# Altium footprint library eGPU Solusions Package.PcbLib: 47 footprints (part 1 of 3)
Each footprint in its own frame and in the unit in brackets; x right, y up, seen from the top. Pads: shape width x height; smd on the part's side, far side on the other; paste and mask are expansions set on the pad; w line width, h text height; cw(c..) or ccw(c..) is an arc to the next point about the centre after c.
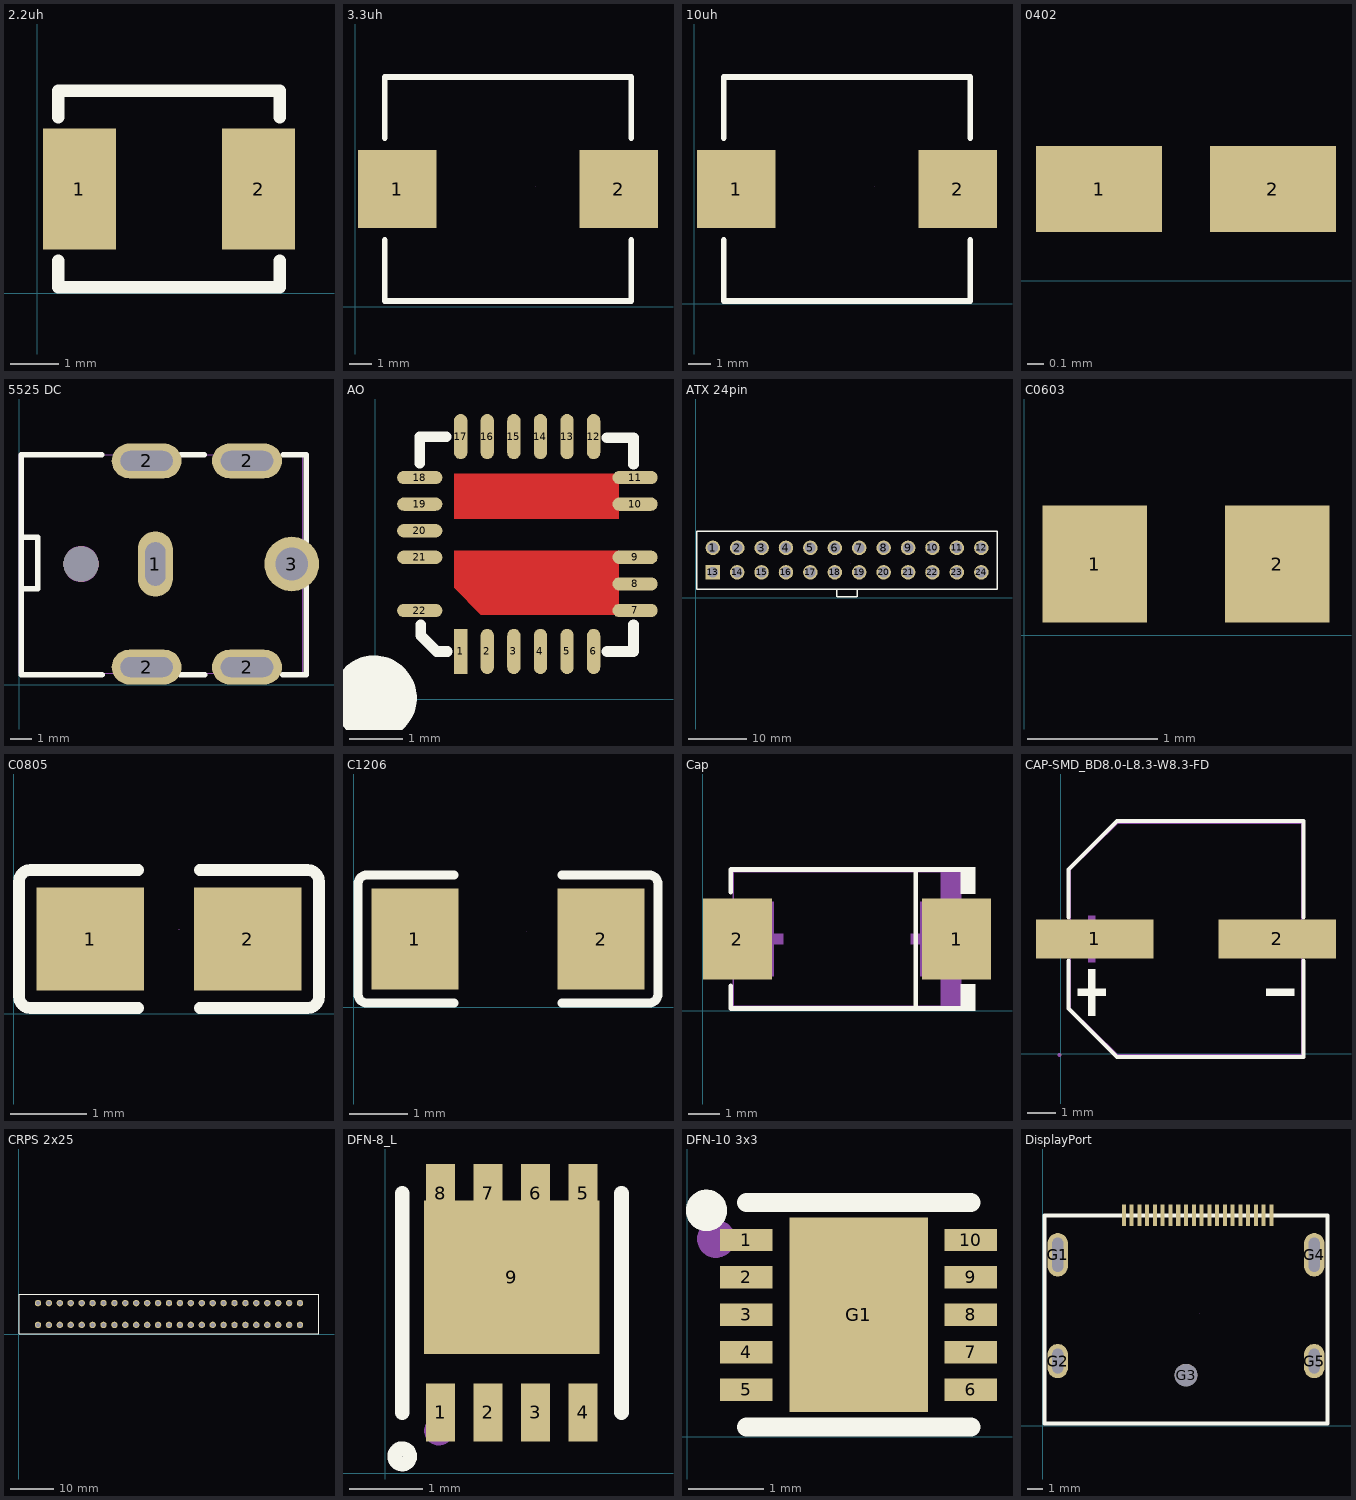
[diagram p0: the footprints below, top view; thin cyan lines are the x and y axes]

## 2.2uh [mm]
pads (2):
  rect 1.5x2.5 smd: 1(0.877,2.159) 2(4.577,2.159)
Top Overlay:
  lines w0.254: 0.441,0.678 0.441,0.127 2.854,0.127 5.013,0.127 5.013,0.678 ; 0.441,3.64 0.441,4.191 5.013,4.191 5.013,3.64
Mechanical 15:
  lines w0.003: 3.933,2.286 3.934,2.286

## 3.3uh [mm]
pads (2):
  rect 3.5x3.5 smd: 1(1.877,5.254) 2(11.777,5.254)
Top Overlay:
  lines w0.254: 1.327,2.973 1.327,0.254 12.327,0.254 12.327,2.973 ; 1.327,7.535 1.327,10.254 12.327,10.254 12.327,7.535
Mechanical 15:
  lines w0.003: 8.033,5.381 8.034,5.381

## 10uh [mm]
pads (2):
  rect 3.5x3.5 smd: 1(1.877,5.127) 2(11.777,5.127)
Top Overlay:
  lines w0.254: 1.327,2.846 1.327,0.127 12.327,0.127 12.327,2.846 ; 1.327,7.408 1.327,10.127 12.327,10.127 12.327,7.408
Mechanical 15:
  lines w0.003: 8.033,5.254 8.034,5.254

## 0402 [mm]
pads (2):
  rect 0.79x0.54 smd: 1(0.7,0.575) 2(1.79,0.575)
Top Paste:
  region: 1.065,0.8 1.065,0.35 0.995,0.3 0.515,0.3 0.465,0.35 0.465,0.8 0.515,0.85 0.995,0.85
  region: 2.025,0.8 2.025,0.35 1.975,0.3 1.495,0.3 1.425,0.35 1.425,0.8 1.495,0.85 1.975,0.85
Mechanical 15:
  lines w0.003: 1.562,0.702 1.563,0.702

## 5525 DC [mm]
pads (6):
  oval 1.6x3 hole 0.914 slot 2 at 90 deg paste+0 mask+0.05: 1(6.25,5.544)
  oval 3.2x1.6 hole 0.914 slot 2.4 at 0 deg copper offset 0,0 paste+0 mask+0.05: 2(5.85,0.819)
  oval 3.2x1.6 hole 0.914 slot 2.4 at 0 deg paste+0 mask+0.05: 2(5.85,10.269) 2(10.45,10.269) 2(10.45,0.819)
  round 2.5 hole 1.5 paste+0 mask+0.05: 3(12.5,5.544)
via 2.85,5.544 diameter 1.6 hole 1.6
Top Overlay:
  lines w0.254: 0.1,0.464 3.805,0.464 ; 0.1,0.544 0.1,10.544 3.787,10.544 ; 0.1,4.401 0.849,4.401 0.849,6.77 0.1,6.77 ; 7.395,0.464 8.505,0.464 ; 7.413,10.544 8.487,10.544 ; 12.095,0.464 13.168,0.464 13.168,4.519 ; 12.113,10.544 13.168,10.544 13.168,6.569
Mechanical 1:
  circle w0.005: c2.85,5.544 r0.8
Mechanical 15:
  region: 6.1,6.344 6.4,6.344 6.4,4.744 6.1,4.744
  region: 5.05,10.419 6.65,10.419 6.65,10.119 5.05,10.119
  region: 5.05,0.969 6.65,0.969 6.65,0.669 5.05,0.669
  region: 9.65,0.969 11.25,0.969 11.25,0.669 9.65,0.669
  region: 9.65,10.419 11.25,10.419 11.25,10.119 9.65,10.119
  region: 13.1,5.544 13.1,5.663 13.009,5.884 12.84,6.053 12.619,6.144 12.381,6.144 12.16,6.053 11.991,5.884 11.9,5.663 11.9,5.544 11.9,5.425 11.991,5.204 12.16,5.035 12.381,4.944 12.619,4.944 12.84,5.035 13.009,5.204 13.1,5.425
  region: 13.16,10.544 13.16,10.569 13.125,10.604 13.075,10.604 13.04,10.569 13.04,10.544 13.04,10.519 13.075,10.484 13.125,10.484 13.16,10.519
  lines w0.051: 0,0.544 0,10.544 13,10.544 13,0.544 0,0.544

## AO [mm]
pads (22):
  rect 0.25x0.85 smd: 1(1.604,0.902)
  oval 0.25x0.85 smd: 2(2.104,0.902) 3(2.604,0.902) 4(3.104,0.902) 5(3.604,0.902) 6(4.104,0.902) 12(4.104,4.942) 13(3.604,4.942) 14(3.104,4.942) 15(2.604,4.942) 16(2.104,4.942) 17(1.604,4.942)
  oval 0.85x0.25 smd: 7(4.884,1.673) 8(4.884,2.172) 9(4.884,2.672) 10(4.884,3.672) 11(4.884,4.172) 18(0.834,4.172) 19(0.834,3.672) 20(0.834,3.172) 21(0.834,2.672) 22(0.834,1.672)
Top Layer:
  region: 1.979,1.597 1.479,2.097 1.479,2.797 4.579,2.797 4.579,1.597
  region: 1.479,3.397 1.479,4.247 4.579,4.247 4.579,3.397
Top Overlay:
  circle w1: c-0.021,0.026 r0.3
  lines w0.2: 0.834,4.442 0.834,4.942 1.334,4.942 ; 0.854,1.402 0.854,1.202 1.154,0.902 1.354,0.902 ; 4.354,0.902 4.854,0.902 4.854,1.402 ; 4.354,4.922 4.854,4.922 4.854,4.422

## ATX 24pin [mm]
pads (24):
  round 2.5 hole 1.8: 1(2.986,8.578) 2(7.174,8.578) 3(11.385,8.578) 4(15.556,8.578) 5(19.755,8.578) 6(23.956,8.578) 7(28.155,8.578) 8(32.356,8.578) 9(36.554,8.578) 10(40.755,8.578) 11(44.954,8.578) 12(49.153,8.578) 14(7.154,4.376) 15(11.355,4.376) 16(15.556,4.376) 17(19.755,4.376) 18(23.956,4.376) 19(28.155,4.376) 20(32.356,4.376) 21(36.554,4.376) 22(40.755,4.376) 23(44.954,4.376) 24(49.153,4.376)
  rect 2.5x2.5 hole 1.8: 13(2.954,4.377)
Top Overlay:
  lines w0.254: 24.276,0.127 24.276,1.397 ; 24.354,0.177 27.754,0.177 ; 27.832,0.127 27.832,1.397 ; 0.254,1.477 0.254,11.477 51.854,11.477 51.854,1.477 0.254,1.477
Mechanical 15:
  lines w0.003: 26.625,5.929 26.626,5.929

## C0603 [mm]
pads (2):
  rect 0.8x0.9 smd: 1(0.542,0.546) 2(1.941,0.546)

## C0805 [mm]
pads (2):
  rect 1.41x1.35 smd: 1(1.002,0.98) 2(3.062,0.98)
Top Overlay:
  lines w0.152: 1.631,0.076 0.221,0.076 cw(c0.221,0.229) 0.068,0.229 0.068,1.731 cw(c0.221,1.731) 0.221,1.883 1.631,1.883 ; 2.433,0.076 3.843,0.076 ccw(c3.843,0.229) 3.996,0.229 3.996,1.731 ccw(c3.843,1.731) 3.843,1.883 2.433,1.883
Top Paste:
  region: 0.357,0.36 0.357,1.64 0.407,1.69 1.557,1.69 1.607,1.64 1.612,1.23 1.162,1.23 1.162,0.78 1.602,0.78 1.607,0.36 1.557,0.31 0.407,0.31
  region: 2.507,0.36 2.507,0.78 2.952,0.78 2.952,1.23 2.512,1.23 2.507,1.64 2.557,1.69 3.707,1.69 3.757,1.64 3.757,0.36 3.707,0.31 2.557,0.31
Mechanical 15:
  lines w0.003: 2.163,1.107 2.163,1.107

## C1206 [mm]
pads (2):
  rect 1.485x1.728 smd: 1(1.047,1.169) 2(4.232,1.169)
Top Overlay:
  lines w0.152: 1.714,0.076 0.229,0.076 cw(c0.229,0.229) 0.076,0.229 0.076,2.109 cw(c0.229,2.109) 0.229,2.261 1.714,2.261 ; 3.566,0.076 5.051,0.076 ccw(c5.051,0.229) 5.203,0.229 5.203,2.109 ccw(c5.051,2.109) 5.051,2.261 3.566,2.261
Top Paste:
  region: 1.79,0.405 1.79,0.775 1.69,0.875 1.385,0.875 1.285,0.975 1.285,1.363 1.385,1.463 1.69,1.463 1.79,1.563 1.79,1.933 1.69,2.033 0.405,2.033 0.305,1.933 0.305,0.405 0.405,0.305 1.69,0.305
  region: 3.49,0.405 3.49,0.775 3.59,0.875 3.895,0.875 3.995,0.975 3.995,1.363 3.895,1.463 3.59,1.463 3.49,1.563 3.49,1.933 3.59,2.033 4.875,2.033 4.975,1.933 4.975,0.405 4.875,0.305 3.59,0.305
Mechanical 15:
  lines w0.003: 2.957,1.296 2.958,1.296

## Cap [mm]
pads (2):
  rect 2.207x2.592 smd paste+0 mask+0.051: 1(8.126,2.302) 2(1.104,2.302)
Top Overlay:
  region: 8.265,0 8.265,0.854 8.722,0.854 8.722,0
  region: 8.265,4.605 8.265,3.751 8.722,3.751 8.722,4.605
  lines w0.152: 0.889,0.803 0.889,0.076 8.341,0.076 ; 0.889,3.802 0.889,4.529 8.341,4.529 ; 6.819,0.076 6.819,4.529
Mechanical 6:
  region: 8.265,4.452 8.265,3.377 7.62,3.377 7.62,4.452
  region: 8.265,0.152 8.265,1.227 7.62,1.227 7.62,0.152
  region: 7.459,1.227 7.459,3.377 7.136,3.377 7.136,1.227
  region: 7.943,2.141 7.943,2.464 6.653,2.464 6.653,2.141
  region: 1.288,2.141 1.288,2.464 2.578,2.464 2.578,2.141
Mechanical 15:
  region: 8.265,1.102 8.265,3.502 6.965,3.502 6.965,1.102
  region: 0.965,1.102 0.965,3.502 2.265,3.502 2.265,1.102
  region: 8.325,0.182 8.325,0.207 8.29,0.242 8.24,0.242 8.205,0.207 8.205,0.182 8.205,0.158 8.24,0.122 8.29,0.122 8.325,0.158
  lines w0.051: 0.965,0.152 8.265,0.152 8.265,4.452 0.965,4.452 0.965,0.152

## CAP-SMD_BD8.0-L8.3-W8.3-FD [mm]
pads (2):
  rect 4.2x1.4 smd mask+0.051: 1(1.211,4.099) 2(7.745,4.099)
Top Overlay:
  region: 0.976,3.02 0.976,1.36 1.225,1.36 1.225,3.02
  region: 0.602,2.315 0.602,2.066 1.598,2.066 1.598,2.315
  region: 8.354,2.315 8.354,2.066 7.358,2.066 7.358,2.315
  lines w0.152: 0.277,3.317 0.277,1.609 2.013,-0.127 8.679,-0.127 8.679,3.317 ; 0.277,4.882 0.277,6.589 2.013,8.325 8.679,8.325 8.679,4.882
Mechanical 6:
  region: 0.976,4.929 0.976,3.269 1.225,3.269 1.225,4.929
  region: 0.602,4.224 0.602,3.975 1.598,3.975 1.598,4.224
  region: 8.354,4.224 8.354,3.975 7.358,3.975 7.358,4.224
Mechanical 15:
  region: -0.046,4.549 2.904,4.549 2.904,3.649 -0.046,3.649
  region: 6.053,4.549 9.003,4.549 9.003,3.649 6.053,3.649
  region: 0.014,-0.051 0.014,-0.026 -0.021,0.009 -0.071,0.009 -0.106,-0.026 -0.106,-0.051 -0.106,-0.076 -0.071,-0.111 -0.021,-0.111 0.014,-0.076
  lines w0.051: 0.328,1.609 0.328,6.589 2.013,8.249 8.628,8.249 8.628,-0.051 2.013,-0.051 0.328,1.609

## CRPS 2x25 [mm]
pads (50):
  round 1.5 hole 1 mask+0.102: 1(4.466,7.216) 2(7.006,7.216) 3(9.546,7.216) 4(12.086,7.216) 5(14.626,7.216) 6(17.166,7.216) 7(19.706,7.216) 8(22.246,7.216) 9(24.786,7.216) 10(27.326,7.216) 11(29.866,7.216) 12(32.406,7.216) 13(34.946,7.216) 14(37.486,7.216) 15(40.026,7.216) 16(42.566,7.216) 17(45.106,7.216) 18(47.646,7.216) 19(50.186,7.216) 20(52.726,7.216) 21(55.266,7.216) 22(57.806,7.216) 23(60.346,7.216) 24(62.886,7.216) 25(65.426,7.216) 26(65.426,2.136) 27(62.886,2.136) 28(60.346,2.136) 29(57.806,2.136) 30(55.266,2.136) 31(52.726,2.136) 32(50.186,2.136) 33(47.646,2.136) 34(45.106,2.136) 35(42.566,2.136) 36(40.026,2.136) 37(37.486,2.136) 38(34.946,2.136) 39(32.406,2.136) 40(29.866,2.136) 41(27.326,2.136) 42(24.786,2.136) 43(22.246,2.136) 44(19.706,2.136) 45(17.166,2.136) 46(14.626,2.136) 47(12.086,2.136) 48(9.546,2.136) 49(7.006,2.136) 50(4.466,2.136)
Top Overlay:
  lines w0.254: 0.051,0.051 0.051,9.301 69.841,9.301 69.841,0.051 0.051,0.051

## DFN-8_L [mm]
pads (9):
  rect 0.4x0.8 smd: 1(0.757,0.832) 2(1.407,0.832) 3(2.057,0.832) 4(2.707,0.832) 5(2.707,3.832) 6(2.057,3.832) 7(1.406,3.832) 8(0.757,3.832)
  rect 2.4x2.1 smd: 9(1.732,2.682)
Top Overlay:
  circle w0.2: c0.232,0.232 r0.105
  lines w0.2: 0.232,0.832 0.232,3.832 ; 3.231,0.832 3.231,3.832
Top Paste:
  region: 2.932,1.632 0.532,1.632 0.532,3.732 0.557,3.732 0.557,4.232 0.957,4.232 0.957,3.732 1.207,3.732 1.207,4.232 1.607,4.232 1.607,3.732 1.857,3.732 1.857,4.232 2.257,4.232 2.257,3.732 2.507,3.732 2.507,4.232 2.907,4.232 2.907,3.732 2.932,3.732
  region: 2.907,0.432 2.507,0.432 2.507,1.232 2.907,1.232
  region: 2.257,0.432 1.857,0.432 1.857,1.232 2.257,1.232
  region: 1.607,0.432 1.207,0.432 1.207,1.232 1.607,1.232
  region: 0.957,0.432 0.557,0.432 0.557,1.232 0.957,1.232
Mechanical 15:
  circle w0.2: c0.732,0.582 r0.1

## DFN-10 3x3 [mm]
pads (11):
  rect 0.7x0.3 smd paste+0 mask+0.051: 1(0.786,2.628) 2(0.786,2.127) 3(0.786,1.627) 4(0.786,1.127) 5(0.786,0.626) 6(3.786,0.626) 7(3.786,1.127) 8(3.786,1.627) 9(3.786,2.127) 10(3.786,2.628)
  rect 1.85x2.6 smd paste+0 mask+0.051: G1(2.286,1.627)
Top Overlay:
  lines w0.254: 0.786,0.127 3.786,0.127 ; 0.786,3.127 3.786,3.127
  lines w0.3: 0.381,3.023 cw(c0.254,3.024) 0.381,3.025
Mechanical 15:
  circle w0.254: c0.381,2.643 r0.127

## DisplayPort [mm]
pads (25):
  rect 0.26x1.4 smd: 1(14.723,13.53) 2(14.223,13.53) 3(13.723,13.53) 4(13.223,13.53) 5(12.723,13.53) 6(12.223,13.53) 7(11.723,13.53) 8(11.223,13.53) 9(10.723,13.53) 10(10.223,13.53) 11(9.724,13.53) 12(9.224,13.53) 13(8.724,13.53) 14(8.224,13.53) 15(7.724,13.53) 16(7.224,13.53) 17(6.724,13.53) 18(6.224,13.53) 19(5.724,13.53) 20(5.224,13.53)
  oval 1.3x2.8 hole 0.7 slot 2.2 at 90 deg: G1(0.973,10.988) G4(17.473,10.988)
  oval 1.3x2.2 hole 0.7 slot 1.6 at 90 deg: G2(0.973,4.15) G5(17.473,4.15)
  round 1.45 hole 1.45 unplated: G3(9.224,3.25)
Top Overlay:
  lines w0.254: 0.124,0.127 0.124,13.528 17.223,13.528 18.323,13.528 18.323,0.127 0.124,0.127
Mechanical 15:
  lines w0.003: 10.112,7.242 10.112,7.242